# Altium footprint library XDCR_SMTB-0827-TW-R.PcbLib: 1 footprints
Each footprint in its own frame and in the unit in brackets; x right, y up, seen from the top. Pads: shape width x height; smd on the part's side, far side on the other; paste and mask are expansions set on the pad; w line width, h text height; cw(c..) or ccw(c..) is an arc to the next point about the centre after c.
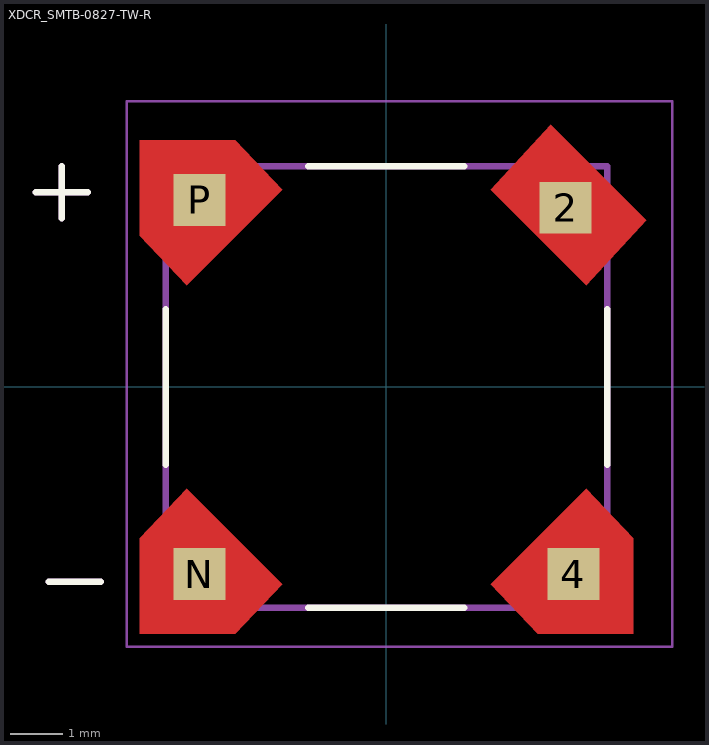
[diagram p0: the footprint, top view; thin cyan lines are the x and y axes]

## XDCR_SMTB-0827-TW-R [mm]
height 3.3
pads (4):
  rect 1x1 smd paste-1 mask+0: 2(3.45,3.45) 4(3.6,-3.6) N(-3.6,-3.6) P(-3.6,3.6)
Top Layer:
  region: -2.009,-3.798 -2.912,-4.75 -4.75,-4.75 -4.75,-2.912 -3.848,-1.959
  region: 5,3.212 3.848,1.959 2.009,3.798 3.162,5.05
  region: 4.75,-2.912 4.75,-4.75 2.912,-4.75 2.009,-3.798 3.848,-1.959
  region: -2.009,3.798 -3.848,1.959 -4.75,2.912 -4.75,4.75 -2.912,4.75
Top Overlay:
  lines w0.127: -6.75,3.75 -5.75,3.75 ; -6.5,-3.75 -5.5,-3.75 ; -6.25,3.25 -6.25,4.25 ; -4.25,-1.5 -4.25,1.5 ; -1.5,-4.25 1.5,-4.25 ; -1.5,4.25 1.5,4.25 ; 4.25,-1.5 4.25,1.5
Top Paste:
  region: -2.009,-3.798 -2.912,-4.75 -4.75,-4.75 -4.75,-2.912 -3.848,-1.959
  region: 5,3.212 3.848,1.959 2.009,3.798 3.162,5.05
  region: 4.75,-2.912 4.75,-4.75 2.912,-4.75 2.009,-3.798 3.848,-1.959
  region: -2.009,3.798 -3.848,1.959 -4.75,2.912 -4.75,4.75 -2.912,4.75
Top Solder:
  region: -1.809,-3.848 -2.912,-4.85 -4.85,-4.85 -4.85,-2.912 -3.848,-1.809
  region: 5.2,3.212 3.798,1.759 1.759,3.798 3.162,5.25
  region: 4.85,-2.812 4.85,-4.85 2.812,-4.85 1.859,-3.748 3.798,-1.809
  region: -1.909,3.798 -3.848,1.859 -4.85,2.812 -4.85,4.85 -2.812,4.85
Mechanical 13:
  lines w0.127: -6.75,3.75 -5.75,3.75 ; -6.5,-3.75 -5.5,-3.75 ; -6.25,3.25 -6.25,4.25 ; -4.25,-4.25 4.25,-4.25 4.25,4.25 -4.25,4.25 -4.25,-4.25
Mechanical 15:
  lines w0.05: -5,-5 -5,5.5 5.5,5.5 5.5,-5 -5,-5
3D body "step_temp.STEP": height 4.31, standoff -4.2, extent -4.271,-1.487 4.243,1.513